# Altium footprint library chip_2010_cs.PcbLib: 1 footprints
Each footprint in its own frame and in the unit in brackets; x right, y up, seen from the top. Pads: shape width x height; smd on the part's side, far side on the other; paste and mask are expansions set on the pad; w line width, h text height; cw(c..) or ccw(c..) is an arc to the next point about the centre after c.
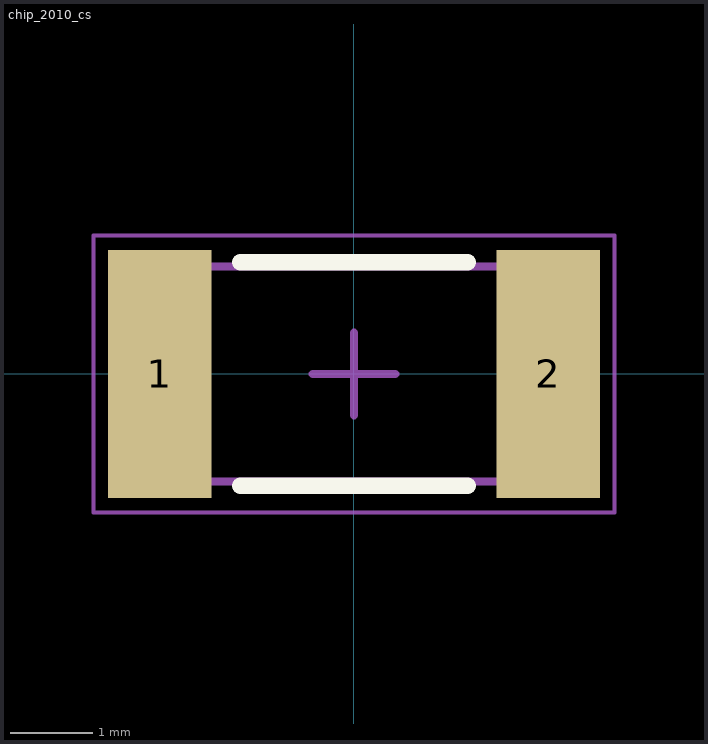
[diagram p0: the footprint, top view; thin cyan lines are the x and y axes]

## chip_2010_cs [mm]
height 0.6
pads (2):
  rect 1.25x3 smd: 1(-2.35,0) 2(2.35,0)
Top Overlay:
  lines w0.2: -1.375,-1.35 1.375,-1.35 ; -1.375,1.35 1.375,1.35
Mechanical 13:
  lines w0.1: -2.55,-1.3 -2.55,1.3 2.55,1.3 2.55,-1.3 -2.55,-1.3
Mechanical 15:
  lines w0.05: -3.15,-1.675 -3.15,1.675 3.15,1.675 3.15,-1.675 -3.15,-1.675
  lines w0.1: -0.5,0 0.5,0 ; 0,-0.5 0,0.5
3D body: height 0.6, standoff 0, extent -1.95,-1.3 1.95,1.3
3D body: height 0.65, standoff 0, extent -2.55,-1.325 -1.95,1.325
3D body: height 0.65, standoff 0, extent 1.95,-1.325 2.55,1.325